# EAGLE library part HDM16216L-5-MODIFIED (library NEWPARTS)
PIN HEADER
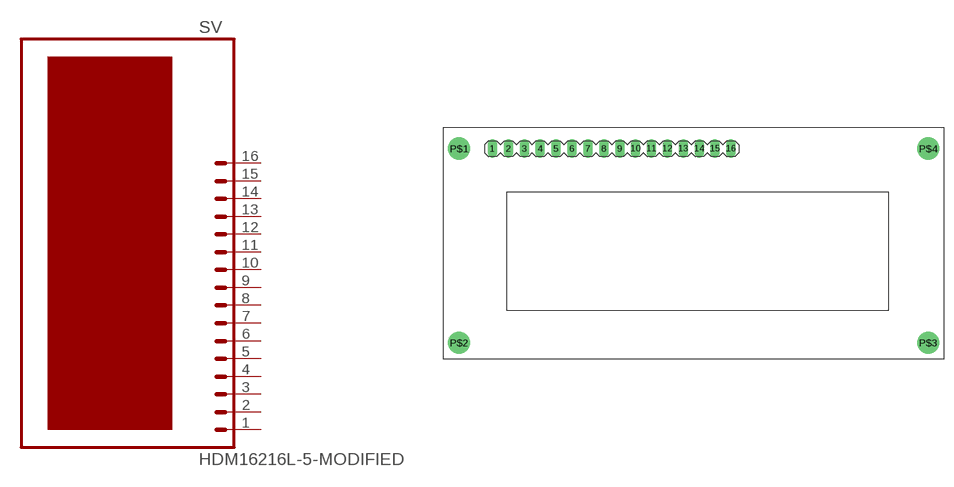
[diagram p13: symbol with the pads of HDM16216L-5; footprint HDM16216L-5]

Designator prefix SV

## HDM16216L-5-MODIFIED  [HDM16216L-5]
1  1  pas
2  2  pas
3  3  pas
4  4  pas
5  5  pas
6  6  pas
7  7  pas
8  8  pas
9  9  pas
10  10  pas
11  11  pas
12  12  pas
13  13  pas
14  14  pas
15  15  pas
16  16  pas

## Footprint HDM16216L-5 (pad centres in mm)
PIN HEADER
drill 1.016 long: 1 7.874,33.528; 2 10.414,33.528; 3 12.954,33.528; 4 15.494,33.528; 5 18.034,33.528; 6 20.574,33.528; 7 23.114,33.528; 8 25.654,33.528; 9 28.194,33.528; 10 30.734,33.528; 11 33.274,33.528; 12 35.814,33.528; 13 38.354,33.528; 14 40.894,33.528; 15 43.434,33.528; 16 45.974,33.528
drill 2.54 round: P$1 2.54,33.528; P$2 2.54,2.54; P$3 77.47,2.54; P$4 77.47,33.528